# Altium schematic symbol library Discrete_Semiconductor.SchLib: 87 symbols
Pins are listed as number, name and electrical type; pins without a type are passive.

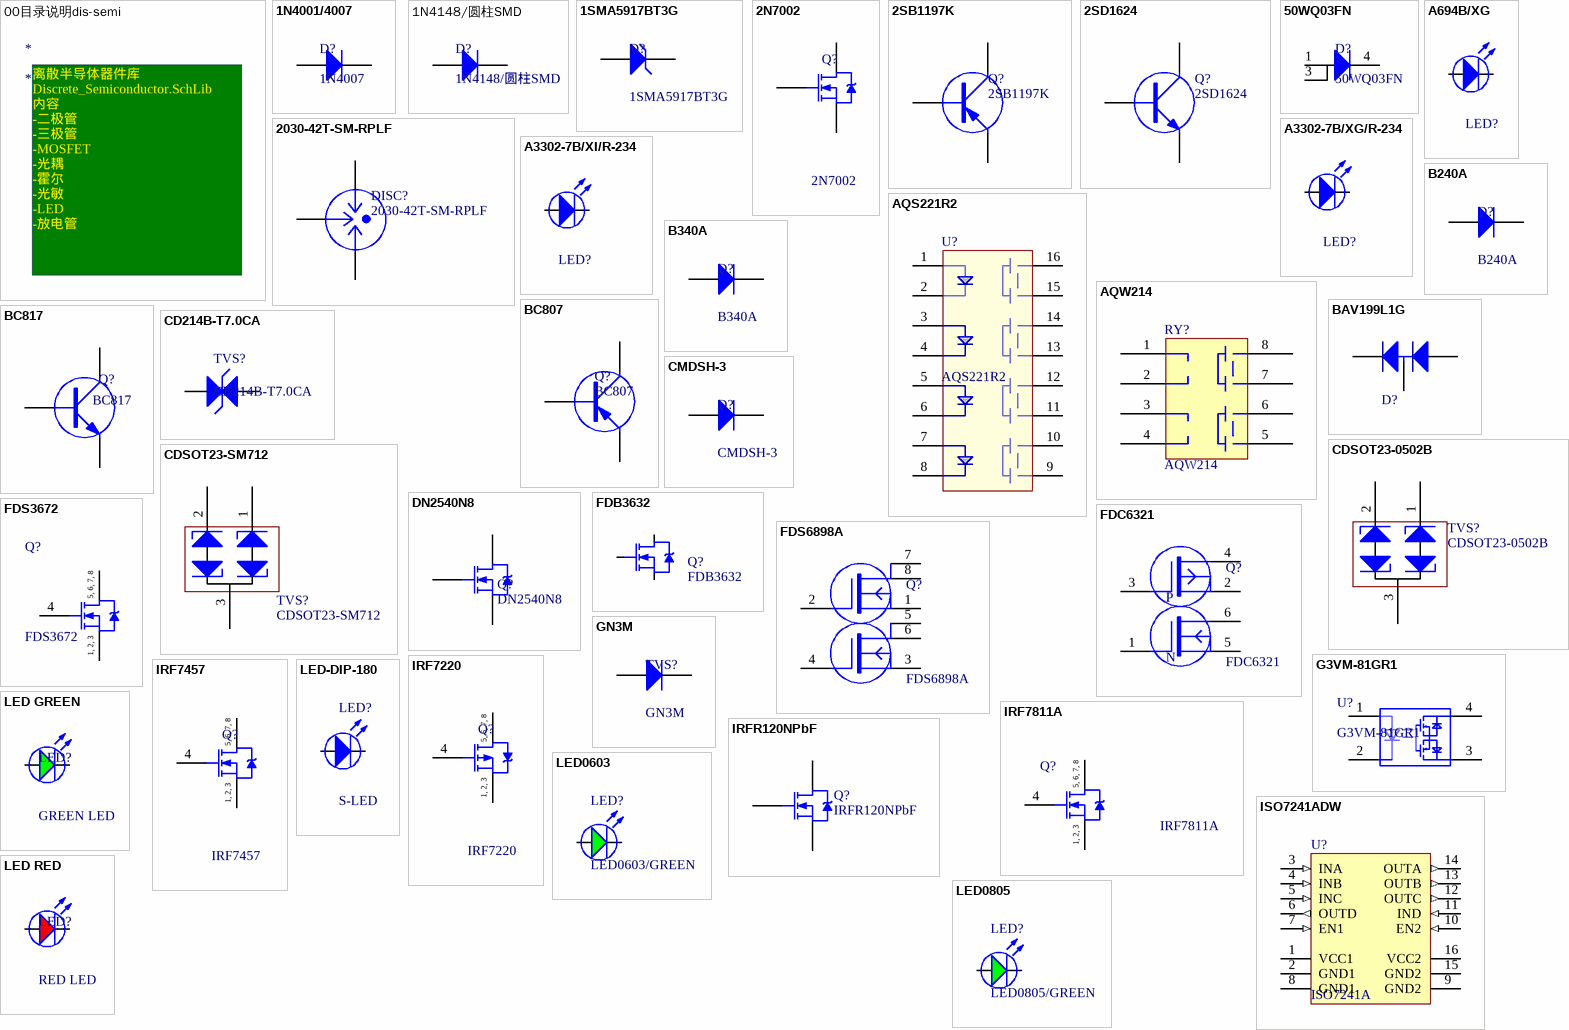
[diagram p0: symbols 00目录说明dis-semi to LED-DIP-180]

## 00目录说明dis-semi
designator *
text: 离散半导体器件库 Discrete_Semiconductor.SchLib / 内容 / -二极管 / -三极管 / -MOSFET / -光耦 / -霍尔 / -光敏 / -LED / -放电管 /

## 1N4001/4007
designator D?, comment 1N4007
已经使用S1MB-13-F代替
footprint D2110 (SMA,D0-214AC,Body 5.3*2.6mm)
pins: 1 A, 2 K

## 1N4148/圆柱SMD
designator D?
1N4148/圆柱SMD表贴二极管,通用; Manufacturer: ON; Name: 二极管; Ordering NO.: 1N4148/无引脚圆柱; Price: 0.09; 物料替代型号: n/a; 物料型号说明: 1N4148/圆柱SMD表贴二极管,通用
footprint D0805 (0805二极管,80x50 mil)
pins: 1 A, 2 K

## 1SMA5917BT3G
designator D?
1.5 Watt Plastic  Surface Mount  4.7V Zener Voltage Regulators; Manufacturer: ON; Name: 二极管; Ordering NO.: 1SMA5917BT3G
footprint D2010 (SMA)
pins: 1 ANODE, 2 CATHODE

## 2N7002
designator Q?
N-channel vertical D-MOS  transistor; Manufacturer: 通用; Name: MOSFET; Price: 0.10; Ordering NO.: 2N7002
footprint SOT23-3 (SOT23, 3-Leads, Body 2.92x1.3mm, Pitch 0.95mm, Lead Span 2.3mm, IPC Medium Density)
pins: 1 G, 2 S, 3 D

## 2SB1197K
designator Q?
Low Frequency Transistor(-32V,-0.8A); Manufacturer: ON; Name: 三极管; Ordering NO.: 2SB1197K
footprint SOT23-3 (SOT23, 3-Leads, Body 2.92x1.3mm, Pitch 0.95mm, Lead Span 2.3mm, IPC Medium Density)
pins: 1 B, 2 E, 3 C

## 2SD1624
designator Q?
Bipolar Transistor 50V, 3A, Low VCE, NPN Single PCP; Manufacturer: ON; Name: 三极管; Ordering NO.: 2SD1624
footprint SOT89-3
pins: 1 B, 2 C, 3 E

## 50WQ03FN
designator D?
Schottky Rectifier, 5.5 A; Manufacturer: ON; Name: 二极管; Ordering NO.: 50WQ03FN
footprint TO-252AA
pins: 1 A, 3 A, 4 K

## 2030-42T-SM-RPLF
designator DISC?
Fast Acting 3-electrode miniature gas discharge tube; Manufacturer: Bourns; Name: 气体放电管; Ordering NO.: 2030-42T-SM-RPLF
footprint GDT3/5*7.3 (GDT,5*7.3mm,3pin)
pins: 1, 2 GND (power), 3

## A694B/XG
designator LED?, comment A694B/XG(单绿)（左负右正）  (value not drawn)
单排直插绿灯; Manufacturer: 都城亿光; Name: LED; Ordering NO.: A694B/XG(单绿)（左负右正）
footprint D-LED2
pins: 1 A, 2 K

## A3302-7B/XG/R-234
designator LED?, comment 单排直插绿灯  (value not drawn)
单排直插绿灯, Forward Current:30mA, Power Dissipation:100mW; Manufacturer: 都城亿光; Name: LED; Ordering NO.: A3302-7B/XG/R-234
footprint D-LED2 (Footprint not found)
pins: 1 A, 2 K

## A3302-7B/XI/R-234
designator LED?, comment 单排直插红灯  (value not drawn)
单排直插红灯, Forward Current:30mA, Power Dissipation:100mW; Manufacturer: 都城亿光; Name: LED; Ordering NO.: A3302-7B/XI/R-234
footprint D-LED2-Red
pins: 1 A, 2 K

## AQS221R2
designator U?
PhotoMOS RELAYS,负载电压:40 V,导通电阻(最大):1.25Ω; Manufacturer: Panasonic; Name: 光耦继电器; Ordering NO.: AQS221R2
footprint SO16/1.27_10.3*4.4 (SOIC, 16-Leads, Body 10.3X4.4mm, Pitch 1.27mm)
pins: 1, 2, 3, 4, 5, 6, 7, 8, 9, 10, 11, 12, 13, 14, 15, 16

## AQW214
designator RY?
PhotoMOS RELAYS,Load voltage:400 V,Load current:100 mA; Manufacturer: Panasonic; Name: 光耦继电器; Ordering NO.: AQW214K/AQW214S
footprint SRLY8/2.54 (Footprint not found)
pins: 1, 2, 3, 4, 5, 6, 7, 8

## B240A
designator D?
High-Current Density Surface Mount Schottky Rectifier,Reverse Voltage 30 & 40 V ,Forward Current 2.0 A; Manufacturer: VISHAY; Name: 二极管; Ordering NO.: B240A
footprint D2010 (SMA,DO-214AC)
pins: 1 A, 2 K

## B340A
designator D?
High-Current Density Surface Mount Schottky Rectifier; Manufacturer: ON; Name: 二极管; Ordering NO.: B340A
footprint D2010
pins: 1 A, 2 K

## BAV199L1G
designator D?  (value not drawn)
Dual Series Switching  Diode; Manufacturer: ON; Name: 二极管; Ordering NO.: BAV199L1G
footprint SOT23-3 (Footprint not found)
pins: 1 A1, 2 A2, 3 A3

## BC807
designator Q?
PNP, 0.8A, 40V; Manufacturer: ON; Name: 三极管; Ordering NO.: BC807
footprint SOT23-3 (SOT23, 3-Leads, Body 2.92x1.3mm, Pitch 0.95mm, Lead Span 2.3mm, IPC Medium Density)
pins: 1 B, 2 E, 3 C

## BC817
designator Q?
NPN, 1.2A, 40V; Manufacturer: ON; Name: 三极管; Price: 0.5; Ordering NO.: BC817
footprint SOT23-3 (SOT23, 3-Leads, Body 2.92x1.3mm, Pitch 0.95mm, Lead Span 2.3mm, IPC Medium Density)
pins: 1 B, 2 E, 3 C

## CD214B-T7.0CA
designator TVS?
双向TVS,600W Surface Mount Transient voltage suppressor with working peak reverse voltage :7.0V; Manufacturer: Bourns; Name: TVS管; Ordering NO.: CD214B-T7.0CA
footprint D2114 (SMB,DO-214AB,2-Leads, Body 5.3x3.6mm)
pins: 1, 2

## CDSOT23-0502B
designator TVS?
The CDSOT23-0502B bidirectional device provides ESD, EFT and Surge protection  for high speed data ports meeting IEC 61000-4-2 (ESD), IEC 61000-4-4 (EFT) and IEC  61000-4-5 (Surge) requirements.; Manufacturer: Bourns; Name: 7.5V双通道双向TVS; Ordering NO.: CDSOT23-0502B
footprint SOT23-3 (SOT23, 3-Leads, Body 2.92x1.3mm, Pitch 0.95mm, Lead Span 2.3mm, IPC Medium Density)
pins: 1, 2, 3

## CDSOT23-SM712
designator TVS?
TVS:2x双向TVS, 7~12V, RS485; Manufacturer: Bourns; Name: TVS管; 物料型号说明: SOT-23封装; tips: 用于RS485防护; Price: 1; 物料替代型号: n/a; Ordering NO.: CDSOT23-SM712
footprint SOT23-3 (SOT23, 3-Leads, Body 2.92x1.3mm, Pitch 0.95mm, Lead Span 2.3mm, IPC Medium Density)
pins: 1, 2, 3

## CMDSH-3
designator D?
SUPER-MINI  SCHOTTKY DIODE, ESD; Manufacturer: ON; Name: 二极管; Ordering NO.: CMDSH-3
footprint SOD-323 (Footprint not found)
pins: 1 A, 2 K

## DN2540N8
designator Q?
N-Channel Depletion-Mode Vertical DMOSFETs; Manufacturer: Supertex inc.; Name: MOSFET; Ordering NO.: DN2540N8
footprint SOT89-3 (SOT89(TO-243AA*), 3-Leads, Body 4.5x2.5mm (max), Pitch 1.60mm, Lead Span 4.1mm, IPC Medium Density)
pins: 1 G, 2 D, 3 S

## FDB3632
designator Q?
N-Channel PowerTrench MOSFET  100V, 80A, 9Ω; Manufacturer: FAIRCHILD; Name: MOSFET; Ordering NO.: FDB3632
footprint TO-263AB-3 (FDB3632)
pins: 1 G, 2 D, 3 S

## FDC6321
designator Q?
双N和P沟道MOSFET,N-Ch 25 V, 0.68 A, RDS(ON) = 0.45 Ω @ VGS= 4.5 V, P-Ch -25 V, -0.46 A, RDS(ON) = 1.1 Ω @ VGS= -4.5 V; Manufacturer: FAIRCHILD; Name: 双MOSFET; Ordering NO.: FDC6321
footprint SOT23-6 (SOT-23/SC-74A; 5 Leads; Body 3.1 x 3 mm, inc. leads (LxW max))
pins: 1 G1, 2 S2, 3 G2, 4 D2, 5 S1, 6 D1
text: P; N

## FDS3672
designator Q?
N-Channel PowerTrench MOSFET  100V, 7.5A, 22mΩ; Manufacturer: FAIRCHILD; Name: MOSFET; Ordering NO.: FDS3672
footprint SO8/1.27_4.9*3.9 (SOIC, 8-Leads, Body 4.9x3.9mm, Pitch 1.27mm,)
pins: 1 S, 2 S, 3 S, 4 G, 5 D, 6 D, 7 D, 8 D
text: 5, 6, 7, 8; 1, 2, 3

## FDS6898A
designator Q?
双N沟道MOSFET,SO8,14moOM,9.4A,20V; Manufacturer: FAIRCHILD; Name: 双MOSFET; Ordering NO.: FDS6898A
footprint SO8/1.27_4.9*3.9 (SOIC, 8-Leads, Body 4.9x3.9mm, Pitch 1.27mm,)
pins: 1 S, 2 G1, 3 S, 4 G2, 5 D, 6 U, 7 D1, 8 D2

## G3VM-81GR1
designator U?
MOSFET Relays, load voltage 80V, continuous load current 200mA; Manufacturer: OMRON; Name: 光耦继电器; Ordering NO.: G3VM-81GR1
footprint SO4/2.54_3.9*4.4 (SOP, 4-Leads, Body 3.9X4.4mm, Pitch 2.54mm)
pins: 1, 2, 3, 4

## GN3M
designator TVS?
SURFACE MOUNT GLASS PASSIVATED JUNCTION RECTIFIER; Manufacturer: Littelfuse; Name: TVS管; Ordering NO.: GN3M
footprint SMC (DO-214AB (SMC) diode package)
pins: 1 A, 2 K

## IRF7220
designator Q?
P-Channel MOSFET, SO8封装,11A,12mOM,14V,IOR出品; Manufacturer: IOR; Name: MOSFET; Ordering NO.: IRF7220
footprint SO8/1.27_4.9*3.9 (SOIC, 8-Leads, Body 4.9x3.9mm, Pitch 1.27mm,)
pins: 1 S, 2 S, 3 S, 4 G, 5 D, 6 D, 7 D, 8 D
text: 5, 6, 7, 8; 1, 2, 3

## IRF7457
designator Q?
N-Channel MOSFET, SO8封装,15A,7mOM,20V,IOR出品; Manufacturer: IOR; Ordering NO.: IRF7457; Name: MOSFET
footprint SO8/1.27_4.9*3.9 (SOIC, 8-Leads, Body 4.9x3.9mm, Pitch 1.27mm,)
pins: 1 S, 2 S, 3 S, 4 G, 5 D, 6 D, 7 D, 8 D
text: 5, 6, 7, 8; 1, 2, 3

## IRF7811A
designator Q?
N-Channel MOSFET,DC-DC,Low Conduction Losses,Low Switching Losses,; Manufacturer: IOR; Ordering NO.: IRF7811A; Name: MOSFET
footprint SO8/1.27_4.9*3.9 (SOIC, 8-Leads, Body 4.9x3.9mm, Pitch 1.27mm,)
pins: 1 S, 2 S, 3 S, 4 G, 5 D, 6 D, 7 D, 8 D
text: 5, 6, 7, 8; 1, 2, 3

## IRFR120NPbF
designator Q?
HEXFET Power MOSFET; Manufacturer: IRF; Name: MOSFET; Ordering NO.: IRFR120NPbF
footprint TO-252AA
pins: 1 G, 3 S, 4 D

## ISO7241ADW
designator U?, comment ISO7241A
QUAD DIGITAL ISOLATORS, 1Mbps; Manufacturer: TI; Name: 4通道光耦; Ordering NO.: ISO7241ADW
footprint SO16/1.27_10.3*7.5 (16-Pin Wide Body Small Outline Integrated Circuit 1.27 mm Pitch, IPC Medium Density)
pins: 1 VCC1 (power), 2 GND1 (power), 3 INA (in), 4 INB (in), 5 INC (in), 6 OUTD (out), 7 EN1 (in), 8 GND1 (power), 9 GND2 (power), 10 EN2 (in), 11 IND (in), 12 OUTC (out), 13 OUTB (out), 14 OUTA (out), 15 GND2 (power), 16 VCC2 (power)

## LED0603
designator LED?, comment LED0603/GREEN
LED,表贴绿色0603; Manufacturer: 都城亿光; 物料型号说明: 绿色0603; Ordering NO.: 19-213/G6C-BM1N2B/3T; 物料型号: LED0603/GREEN; 物料替代型号: n/a; 物料说明: LED,表贴绿色0603; Price: 0.11; Name: LED
footprint LED0603 (0603表贴LED,60x30 mil)
pins: 1 A, 2 K

## LED0805
designator LED?, comment LED0805/GREEN
LED,表贴绿色0805; Manufacturer: 都城亿光; 物料型号说明: 绿色0805; 物料型号: LED0805/GREEN; 物料替代型号: n/a; 物料说明: LED,表贴绿色0805; Price: 0.11; Name: LED
footprint LED0805 (Footprint not found)
pins: 1 A, 2 K

## LED GREEN
designator LED?, comment GREEN LED
LED贴片绿灯,  Forward Current:25mA, Power Dissipation:60mW, 1206; Manufacturer: 都城亿光; Ordering NO.: 15-21/G6C-AN1P2/2T; Name: LED
footprint LED1206-GREEN (Chip Diode; Body 3.2 x 1.6 mm (LxW typ))
pins: 1 A, 2 K

## LED RED
designator LED?, comment RED LED
LED贴片红灯,  Forward Current:25mA, Power Dissipation:60mW, 1206; Manufacturer: 都城亿光; Ordering NO.: 15-21SURC/S530-A3/TR8; Name: LED
footprint LED1206-RED (Chip Diode; Body 3.2 x 1.6 mm (LxW typ))
pins: 1 A, 2 K

## LED-DIP-180
designator LED?, comment S-LED
直插LED, 180度; Manufacturer: 都城亿光; Name: LED; Ordering NO.: 333GD/E-A
footprint D-LED2/2.54 (Footprint not found)
pins: 1 A, 2 K

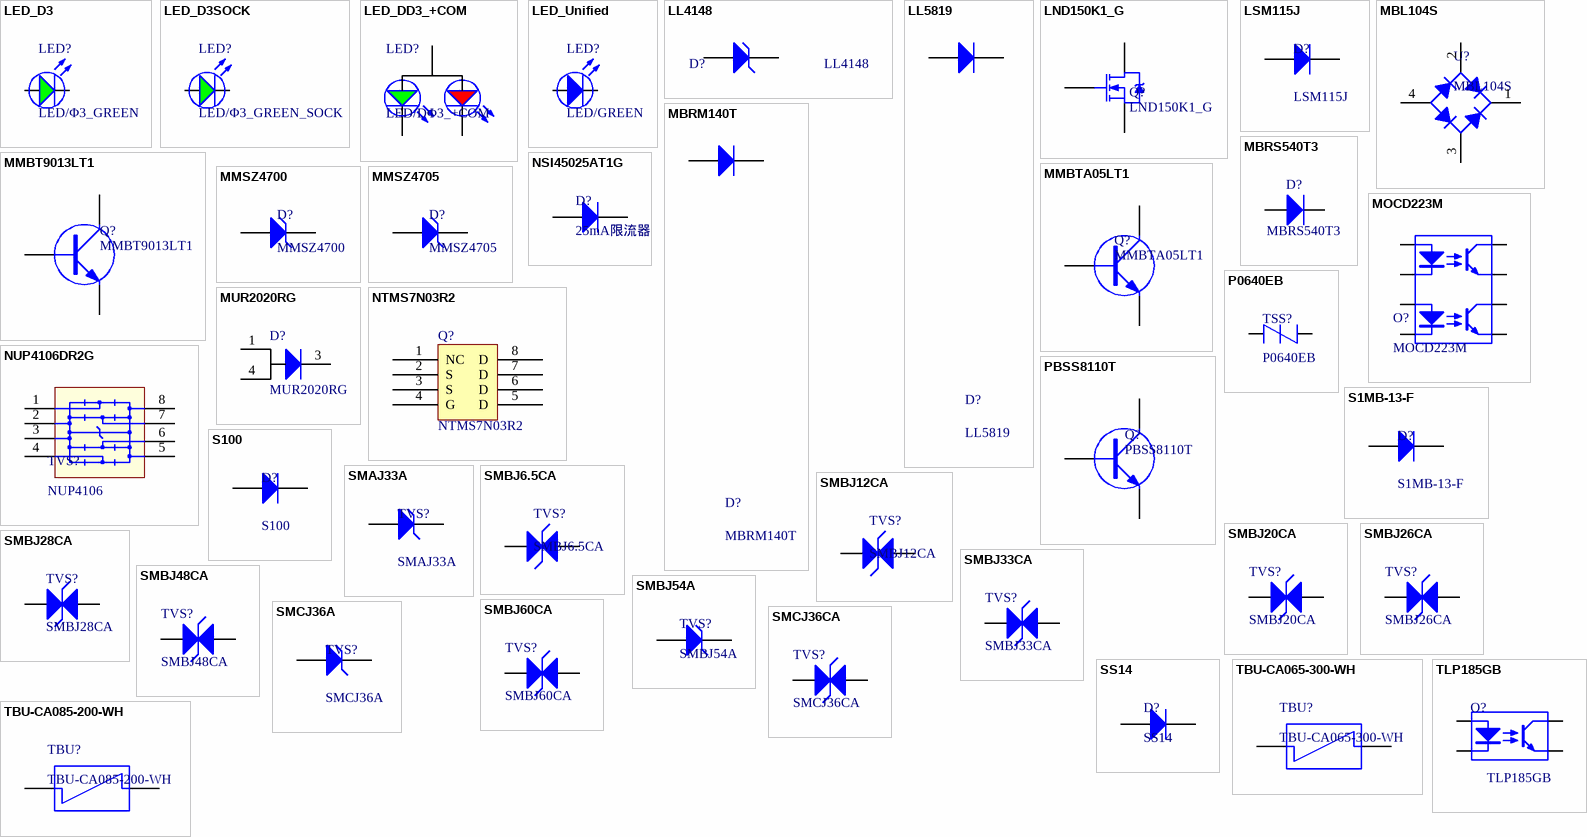
[diagram p1: symbols LED_D3 to TLP185GB]

## LED_D3
designator LED?, comment LED/Φ3_GREEN
LED,分立Φ3直插; Manufacturer: 都城亿光; 物料替代型号: 国产同型; 物料型号: LED,分立Φ3直插,绿色; Price: 0.11; 物料说明: LED,分立Φ3直插; 物料型号说明: LED,分立Φ3直插; Name: LED
footprint D-LED2/D3
pins: 1 A, 2 K

## LED_D3SOCK
designator LED?, comment LED/Φ3_GREEN_SOCK
LED,带座分立Φ3直插; Manufacturer: 都城亿光; 物料替代型号: 国产同型; 物料型号: LED,带座卧式分立Φ3直插,绿色; 物料型号说明: LED,带座卧式分立Φ3直插; Price: 0.11; 物料说明: LED,带座分立Φ3直插; Name: LED
footprint D-LED2
pins: 1 A, 2 K

## LED_DD3_+COM
designator LED?, comment LED/DΦ3_+COM
LED双色共阳,分立Φ3直插; Manufacturer: 都城亿光; 物料说明: 双色LED,分立Φ3直插; 物料替代型号: 国产同型; 物料型号: 双色LED,分立Φ3直插,绿/红色共阳; Name: LED; Price: 0.31; 物料型号说明: 双色LED,分立Φ3直插
footprint D-LED3/D3 (插装LED,直径3mm)
pins: 1 K1, 2 A, 3 K2

## LED_Unified
designator LED?, comment LED/GREEN
LED,分立Φ3~Φ5表贴; Manufacturer: 都城亿光; Price: 0.11; Name: LED
footprint LED0603 (0603表贴LED,60x30 mil)
footprint D-LED2/D3
pins: 1 A, 2 K

## LL4148
designator D?
Small Signal Fast Switching Diodes; Manufacturer: VISHAY; Name: 二极管; Ordering NO.: LL4148
footprint SOD-80 (Mini Metal Electrode Face (MELF) Diode; Body 3.5 x 1.6 mm (LxDia))
pins: 1 A, 2 K

## LL5819
designator D?
表贴二极管,封装MELF; Manufacturer: ON; Name: 二极管; Ordering NO.: LL5819
footprint MELF5025 (Footprint not found)
pins: 1 A, 2 K

## LND150K1_G
designator Q?
N-Channel Depletion-mode DMOSFET,500V, 1.0mA; Manufacturer: Supertex inc.; Name: MOSFET; Ordering NO.: LND150K1_G
footprint SOT23-3 (SOT23, 3-Leads, Body 2.92x1.3mm, Pitch 0.95mm, Lead Span 2.3mm, IPC Medium Density)
pins: 1 G, 2 D, 3 S

## LSM115J
designator D?
1 Amp Ultra Low Forward Voltage(0.3V) Schottky Diode; Manufacturer: Microsemi; Name: 二极管; Ordering NO.: LSM115J
footprint D2114 (SMB,2-Leads, Body 5.3x3.6mm)
pins: 1 A, 2 K

## MBL104S
designator U?
surface mount bridge rectifier; Manufacturer: VISHAY; Value: Maximum RMS voltage 280V; Name: 整流桥; Ordering NO.: MBL104S
footprint SO4/4.0_5.3*4.8 (SOP, 4-Leads, Body 5.3x4.8mm (max), Pitch 4.00mm, IPC Medium Density)
pins: 1 +, 2 ~, 3 ~, 4 -

## MBRM140T
designator D?
MBRM140T 表贴二极管,通用; Manufacturer: ON; Name: 二极管; Ordering NO.: MBRM140T
footprint DO-216AA (Footprint not found)
pins: 1 A, 2 K

## MBRS540T3
designator D?
表贴肖特基电源用二极管，0.1A导通压降0.4V，最大承受电流5A; Manufacturer: ON; Name: 二极管; Ordering NO.: MBRS540T3
footprint D3123 (SMC, Molded Diode, 2-Leads, Body 7.9x5.9mm, IPC Medium Density)
pins: 1, 2

## MMBT9013LT1
designator Q?
NPN SILICON TRANSISTOR; Manufacturer: 永而佳; Name: 三极管; Ordering NO.: MMBT9013LT1
footprint SOT23-3 (SOT23, 3-Leads, Body 2.9x1.3mm, Pitch 0.95mm, Lead Span 2.3mm, IPC Medium Density)
pins: 1 B, 2 E, 3 C

## MMBTA05LT1
designator Q?
NPN low VCEsat (BISS) transistor; Manufacturer: ON; Name: 三极管; Ordering NO.: MMBTA05LT1
footprint SOT23-3 (SOT23, 3-Leads, Body 2.92x1.3mm, Pitch 0.95mm, Lead Span 2.3mm, IPC Medium Density)
pins: 1 B, 2 E, 3 C

## MMSZ4700
designator D?
Zener Diode, 钳位电压13V; Manufacturer: General Semiconductor; Name: 二极管; Ordering NO.: MMSZ4700
footprint SOD-123 (SOD-123; 2 Leads; Body 2.7 x 1.6 mm, (LxW))
pins: 1 A, 2 K

## MMSZ4705
designator D?
Zener Diode, 钳位电压 18V; Manufacturer: General Semiconductor; Name: 二极管; Ordering NO.: MMSZ4705
footprint SOD-123 (SOD-123; 2 Leads; Body 2.7 x 1.6 mm, (LxW))
pins: 1 A, 2 K

## MOCD223M
designator O?
Dual-Channel Phototransistor Small Outline Surface Mount Optocouplers; Manufacturer: FAIRCHILD; Name: 光耦; Ordering No.: MOCD223M
footprint SO8/1.27_4.9*3.9 (SOIC, 8-Leads, Body 4.9x3.9mm, Pitch 1.27mm,)
pins: 1 ANODE 1 "Anode", 2 CATHODE 1 "Cathode", 3 ANODE 2 "Anode", 4 CATHODE 2 "Cathode", 5 EMITTER 2 "Emitter", 6 COLLECTOR 2 "Collector", 7 EMITTER 1 "Emitter", 8 COLLECTOR 1 "Collector"

## MUR2020RG
designator D?
Ultrafast Power Rectifier; Manufacturer: ON; Name: 二极管; PackageReference: DO-201AD; Ordering NO.: MUR2020RG
footprint TO-220AC (TO-220AC CASE 221B STYLE2)
pins: 1 A, 3 K, 4

## NSI45025AT1G
designator D?, comment 25mA限流器
Constant Current Regulator & LED Driver 45 V, 25 mA  10%, 460 mW Package; Manufacturer: ON; Ordering NO.: NSI45025AT1G; Name: 25mA限流器
footprint SOD-123 (SOD-123; 2 Leads; Body 2.7 x 1.6 mm, (LxW))
pins: 1 A, 2 K

## NTMS7N03R2
designator Q?
N-Channel Power MOSFET 30V,7A,23mΩ; Manufacturer: ON; 物料型号说明: 2500pcs/盘; 物料替代型号: 国产; Ordering NO.: NTMS7N03R2; Name: MOSFET; Price: 2.01
footprint SO8/1.27_4.9*3.9 (SOIC, 8-Leads, Body 4.9x3.9mm, Pitch 1.27mm,)
pins: 1 NC, 2 S, 3 S, 4 G, 5 D, 6 D, 7 D, 8 D

## NUP4106DR2G
designator TVS?, comment NUP4106
SO-8 LOW CAPACITANCE  VOLTAGE SUPPRESSOR  500 WATTS PEAK POWER  3.3 VOLTS; Manufacturer: ON; Name: TVS管; Ordering NO.: NUP4106DR2G
footprint SO8/1.27_4.9*3.9 (SOIC, 8-Leads, Body 4.9x3.9mm, Pitch 1.27mm,)
pins: 1 IO1, 2 REF1, 3 REF1, 4 IO2, 5 GND, 6 IO3, 7 IO4, 8 GND

## P0640EB
designator TSS?
Baseband Protection; Manufacturer: Littelfuse; Name: 半导体放电管; Ordering NO.: P0640EB
footprint TO92-2
pins: 1, 2

## PBSS8110T
designator Q?
NPN low VCEsat (BISS) transistor; Manufacturer: NXP; Name: 三极管; Ordering NO.: PBSS8110T
footprint SOT23-3 (SOT23, 3-Leads, Body 2.92x1.3mm, Pitch 0.95mm, Lead Span 2.3mm, IPC Medium Density)
pins: 1 B, 2 E, 3 C

## S1MB-13-F
designator D?
1.0A SURFACE MOUNT GLASS PASSIVATED RECTIFIER; Manufacturer: DIODES; Name: 二极管; Ordering NO.: S1MB-13-F
footprint D2114 (Molded Diode, 2-Leads, Body 5.3x3.6mm, IPC Medium Density)
pins: 1 A, 2 K

## S100
designator D?
Default Diode 二极管1N5817 贴片; Manufacturer: ON; Name: 二极管; Ordering NO.: S100
footprint D1710 (SMA,Molded Diode, 2-Leads, Body 4.3*2.7mm, IPC Medium Density)
pins: 1 A, 2 K

## SMAJ33A
designator TVS?
TVS,400W Surface Mount Transient Voltage Suppressors, Reverse  Standoff  Voltage=33V; Manufacturer: Littelfuse; Name: TVS管; Ordering NO.: SMAJ33A
footprint D2010 (SMA)
pins: 1 A, 2 K

## SMBJ6.5CA
designator TVS?
双向TVS,600W Surface Mount Transient Voltage Suppressors,Standoff  Voltage=6.5V; Manufacturer: Littelfuse; Name: TVS管; 物料型号说明: 双向6.5V; Price: 0.5; 物料替代型号: n/a; Ordering NO.: SMBJ6.5CA
footprint D2114 (SMB,DO-214AB,2-Leads, Body 5.3x3.6mm)
pins: 1, 2

## SMBJ12CA
designator TVS?
双向TVS,600W Surface Mount Transient Voltage Suppressors,Standoff  Voltage=12V; Manufacturer: Littelfuse; Name: TVS管; Ordering NO.: SMBJ12CA
footprint D2114 (SMB)
pins: 1, 2

## SMBJ20CA
designator TVS?
双向TVS,600W Surface Mount Transient Voltage Suppressors,Standoff  Voltage=20V; Manufacturer: Littelfuse; Name: TVS管; Ordering NO.: SMBJ20CA
footprint D2114 (SMB,DO-214AB,2-Leads, Body 5.3x3.6mm)
pins: 1, 2

## SMBJ26CA
designator TVS?
双向TVS,600W Surface Mount Transient Voltage Suppressors,Standoff  Voltage=26V; Manufacturer: Littelfuse; Name: TVS管; Ordering NO.: SMBJ26CA
footprint D2114 (SMB,DO-214AB,2-Leads, Body 5.3x3.6mm)
pins: 1, 2

## SMBJ28CA
designator TVS?
双向TVS,600W Surface Mount Transient Voltage Suppressors,Standoff  Voltage=28V; Manufacturer: DIODES; Name: TVS管; Ordering NO.: SMBJ28CA
footprint D2114 (Molded Diode, 2-Leads, Body 5.3x3.6mm, IPC Medium Density)
pins: 1, 2

## SMBJ33CA
designator TVS?
双向TVS,600W Surface Mount Transient Voltage Suppressors,Standoff  Voltage=33V; Manufacturer: Littelfuse; Name: TVS管; Ordering NO.: SMBJ33CA
footprint D2114 (Molded Diode, 2-Leads, Body 5.3x3.6mm, IPC Medium Density)
pins: 1, 2

## SMBJ48CA
designator TVS?
双向TVS,600W Surface Mount Transient Voltage Suppressors,Standoff  Voltage=48V; Manufacturer: Littelfuse; Name: TVS管; Ordering NO.: SMBJ48CA
footprint D2114 (Molded Diode, 2-Leads, Body 5.3x3.6mm, IPC Medium Density)
pins: 1, 2

## SMBJ54A
designator TVS?
Silicon Avalanche Diodes ,600W Surface Mount Transient Voltage Suppressors,Standoff  Voltage=54V; Manufacturer: Littelfuse; Name: TVS管; Ordering No.: SMBJ54A
footprint D2114 (SMB,DO-214AB,2-Leads, Body 5.3x3.6mm)
pins: 1 A, 2 K

## SMBJ60CA
designator TVS?
双向TVS, breakdown66.7V, clamping voltage96.8V, reverse standoff voltage 60V; Manufacturer: Littelfuse; Name: TVS管; Ordering NO.: SMBJ60CA
footprint D2114 (Molded Diode, 2-Leads, Body 5.3x3.6mm, IPC Medium Density)
pins: 1, 2

## SMCJ36A
designator TVS?
TVS,1500W Surface Mount Transient Voltage Suppressors, Reverse  Standoff  Voltage=36V; Manufacturer: DIODES; Name: TVS管; Ordering NO.: SMCJ36A
footprint D3123
simulation model ZENER (Diode)
signal-integrity model D Zener
pins: 1 A, 2 K

## SMCJ36CA
designator TVS?
双向TVS,1500W Surface Mount Transient Voltage Suppressors, Reverse  Standoff  Voltage=36V; Manufacturer: Littelfuse; Name: TVS管; Ordering NO.: SMCJ36CA
footprint D3123 (SMC, Molded Diode, 2-Leads, Body 7.9x5.9mm, IPC Medium Density)
pins: 1, 2

## SS14
designator D?
通用二极管; Manufacturer: ON; 物料替代型号: n.a.; Name: 二极管; 物料型号说明: SS14; Ordering NO.: SS14; Price: 0.20
footprint D2012 (2012 二极管, 典型SS14)
pins: 1 A, 2 K

## TBU-CA065-300-WH
designator TBU?
low capacitance single  bidirectional high-speed protection  components,Overcurrent and overvoltage protection,Vimp=650V,Itrigger=300mA; Manufacturer: Bourns; Name: 高速保护管; 物料型号说明: 双向650V,300mA; tips: 用于RS485防护; Price: 8; 物料替代型号: n/a; Ordering NO.: TBU-CA065-300-WH
footprint DFN3/6.5*4.0 (Footprint not found)
pins: 1, 3

## TBU-CA085-200-WH
designator TBU?
low capacitance single  bidirectional high-speed protection  components,Overcurrent and overvoltage protection,Vimp=850V,Itrigger=200mA; Manufacturer: Bourns; Name: 高速保护管; tips: 用于RS485防护; Price: 8; Ordering NO.: TBU-CA085-200-WH
footprint DFN3/6.5*4.0 (Footprint not found)
pins: 1, 3

## TLP185GB
designator O?
4-Pin Phototransistor Optocoupler; Manufacturer: TOSHIBA; Name: 光耦; Ordering NO.: TLP185GB
footprint SO4/2.54_3.6*4.4 (SOIC, 4-Leads, Body 3.6X4.4mm, Pitch 2.54mm)
pins: 1 Anode, 3 Cathode, 4 E "Emitter", 6 Collector

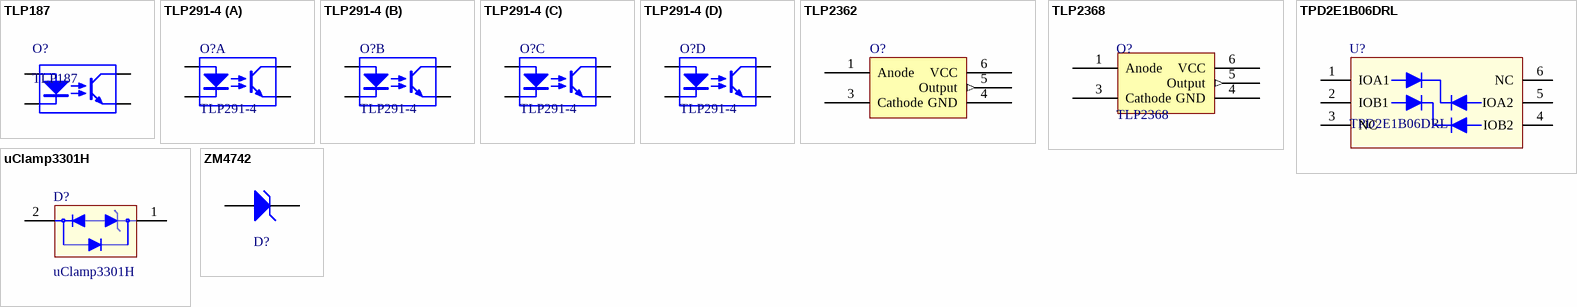
[diagram p2: symbols TLP187 to ZM4742]

## TLP187
designator O?
东芝光耦,MFSOP6封装, 高Vceo; Manufacturer: TOSHIBA; Name: 光耦; tips: TLP127替代产品; Price: 8; 物料替代型号: n/a; Ordering NO.: TLP187; 物料型号说明: MFSOP6封装
footprint SO4/2.54_3.6*4.4 (SOIC, 4-Leads, Body 3.6X4.4mm, Pitch 2.54mm)
pins: 1 Anode, 3 Cathode, 4 E "Emitter", 6 Collector

## TLP291-4
designator O?
四联光耦10Mb; Manufacturer: TOSHIBA; Name: 光耦; tips: TLP281替代产品; Ordering NO.: TLP291-4
footprint SO16/1.27_10.3*4.4 (SOIC, 16-Leads, Body 10.3X4.4mm, Pitch 1.27mm)
part A pins: 1 Anode, 2 Cathode, 15 E "Emitter", 16 Collector
part B pins: 3 Anode, 4 Cathode, 13 E "Emitter", 14 Collector
part C pins: 5 Anode, 6 Cathode, 11 E "Emitter", 12 Collector
part D pins: 7 Anode, 8 Cathode, 9 E "Emitter", 10 Collector

## TLP2362
designator O?  (value not drawn)
Isolated Line Receiver, Simplex / Multiplex Data Transmission; Manufacturer: TOSHIBA; Name: 光耦; Tips: TLP113已经停产，推荐使用TLP2362; Ordering NO.: TLP2362
footprint SO5/1.27_3.6*4.4 (SOIC, 5-Leads, Body 3.6X4.4mm, Pitch 1.27mm)
pins: 1 Anode, 3 Cathode, 4 GND (power), 5 Output (out), 6 VCC (power)

## TLP2368
designator O?
TOSHIBA Photocoupler GaAs Ired & Photo-Transistor; Name: 光耦; Ordering NO.: TLP2362; tips: TLP118替代产品; Manufacturer: TOSHIBA
footprint SO5/1.27_3.6*4.4 (SOIC, 5-Leads, Body 3.6X4.4mm, Pitch 1.27mm)
pins: 1 Anode, 3 Cathode, 4 GND (power), 5 Output (out), 6 VCC (power)

## TPD2E1B06DRL
designator U?
DUAL CHANNEL HIGH SPEED ESD PROTECTION DEVICE; Manufacturer: TI; Name: ESD芯片; Ordering NO.: TPD2E1B06DRL
footprint SOT23-6-A (SOT; 6Leads; Body 1.6x1.2mm)
pins: 1 IOA1, 2 IOB1, 3 NC, 4 IOB2, 5 IOA2, 6 NC

## uClamp3301H
designator D?
Low Voltage μClamp for ESD and CDE Protection; Manufacturer: SEMTECH; Name: ESD芯片; Ordering NO.: uClamp3301H
footprint SOD-523
pins: 1 PIN2, 2 PIN1

## ZM4742
designator D?  (value not drawn)
Zener Diode 12V/1W; Manufacturer: VISHAY; Name: 二极管; Ordering NO.: ZM4742
footprint LED1808 (同MELF封装)
pins: 1 A, 2 K